# Altium footprint library Mechanical.PcbLib: 2 footprints
Each footprint in its own frame and in the unit in brackets; x right, y up, seen from the top. Pads: shape width x height; smd on the part's side, far side on the other; paste and mask are expansions set on the pad; w line width, h text height; cw(c..) or ccw(c..) is an arc to the next point about the centre after c.
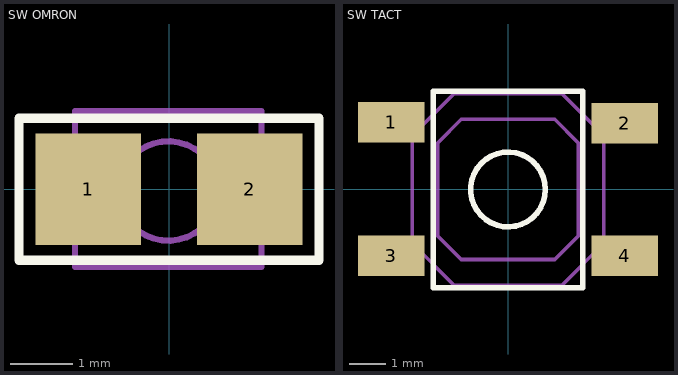
[diagram p0: the footprints below, top view; thin cyan lines are the x and y axes]

## SW OMRON [mm] "SWITCH, OMRON, SMALL"
height 1.5
pads (2):
  rect 1.7x1.8 smd mask+0: 1(-1.3,0) 2(1.3,0)
Top Overlay:
  lines w0.152: -2.413,-1.143 -2.413,1.143 2.413,1.143 2.413,-1.143 -2.413,-1.143
Mechanical 13:
  circle w0.1: c-0.012,-0.028 r0.8
  lines w0.1: -1.512,-1.246 -1.512,1.254 1.488,1.254 1.488,-1.246 -1.512,-1.246
3D body: height 1.6, standoff 1.2, extent -0.805,-0.826 0.788,0.77
3D body: height 1.2, standoff 0, extent -1.512,-1.246 1.488,1.254

## SW TACT [mm] "SWITCH"
height 1.5
pads (4):
  rect 1.8x1.1 smd: 1(-3.175,1.829) 2(3.175,1.803) 3(-3.175,-1.803) 4(3.175,-1.803)
Top Overlay:
  circle w0.152: c0,0 r1.016
  lines w0.152: -2.032,-2.667 2.032,-2.667 2.032,2.667 -2.032,2.667 -2.032,-2.667
Mechanical 1:
  circle w0.1: c0,0 r1
Mechanical 13:
  lines w0.1: -2.6,-1.464 -2.6,1.464 -1.464,2.6 1.464,2.6 2.6,1.464 2.6,-1.464 1.464,-2.6 -1.464,-2.6 -2.6,-1.464 ; -1.905,-1.27 -1.905,1.27 -1.27,1.905 1.27,1.905 1.905,1.27 1.905,-1.27 1.27,-1.905 -1.27,-1.905 -1.905,-1.27
3D body: height 0.4, standoff 0, extent -2.857,1.524 -2.73,2.032
3D body: height 0.2, standoff 0, extent -3.81,1.524 -2.73,2.032
3D body: height 0.4, standoff 0.2, extent -2.857,1.524 -1.841,2.032
3D body: height 0.4, standoff 0, extent -2.857,-2.032 -2.73,-1.524
3D body: height 0.2, standoff 0, extent -3.81,-2.032 -2.73,-1.524
3D body: height 0.4, standoff 0.2, extent -2.857,-2.032 -1.841,-1.524
3D body: height 0.4, standoff 0, extent 2.73,-2.032 2.857,-1.524
3D body: height 0.2, standoff 0, extent 2.73,-2.032 3.81,-1.524
3D body: height 0.4, standoff 0.2, extent 1.841,-2.032 2.857,-1.524
3D body: height 0.8, standoff 0, extent -2.6,-2.6 2.6,2.6
3D body: height 1.2, standoff 0.8, extent -1.905,-1.905 1.905,1.905
3D body: height 1.5, standoff 1.2, extent -0.992,-0.998 1,0.998
3D body: height 0.4, standoff 0.2, extent 1.778,1.524 2.794,2.032
3D body: height 0.2, standoff 0, extent 2.667,1.524 3.81,2.032
3D body: height 0.4, standoff 0, extent 2.667,1.524 2.794,2.032